# Altium footprint library PCB - CONNECTOR - PHOENIX 1757242.PcbLib: 1 footprints
Each footprint in its own frame and in the unit in brackets; x right, y up, seen from the top. Pads: shape width x height; smd on the part's side, far side on the other; paste and mask are expansions set on the pad; w line width, h text height; cw(c..) or ccw(c..) is an arc to the next point about the centre after c.
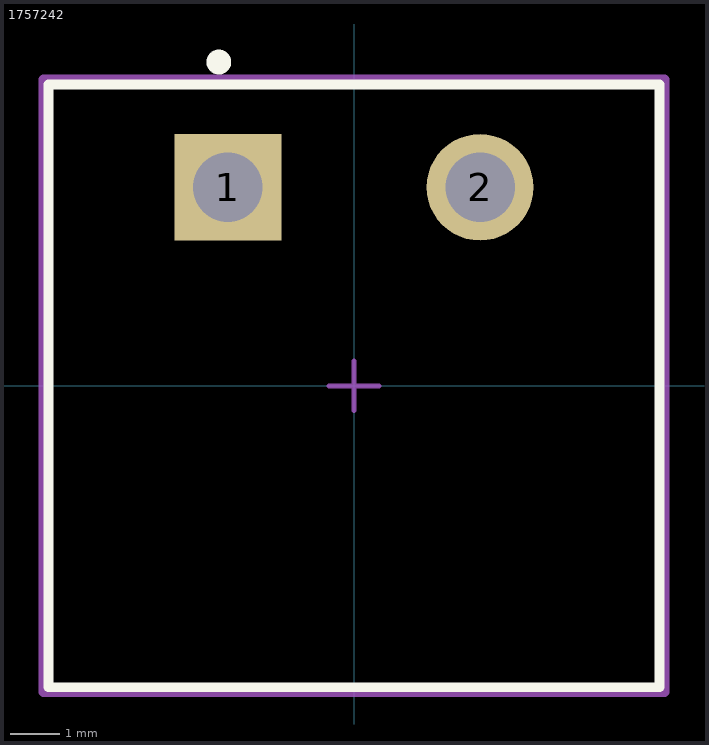
[diagram p0: the footprint, top view; thin cyan lines are the x and y axes]

## 1757242 [mm]
pads (2):
  rect 2.15x2.15 hole 1.4 paste-2539.97 mask+0: 1(-2.54,4)
  round 2.15 hole 1.4 paste-2539.97 mask+0: 2(2.54,4)
Top Overlay:
  circle w0.25: c-2.725,6.525 r0.125
  lines w0.2: -6.155,-6.075 -6.155,6.075 6.155,6.075 6.155,-6.075 -6.155,-6.075
Top Assembly:
  lines w0.2: -6.255,-6.175 -6.255,6.175 6.255,6.175 6.255,-6.175 -6.255,-6.175
Top Courtyard:
  lines w0.2: -6.255,-6.175 -6.255,6.175 6.255,6.175 6.255,-6.175 -6.255,-6.175
Top Designator:
  text ".Designator" at -1.905,6.665 h1
Top Component Center:
  lines w0.1: -0.5,0 0.5,0 ; 0,-0.5 0,0.5
3D body "Conn_Phoenix_Contact_1757242_eec.STEP": height 0.25, standoff 0, extent -6.255,-6.175 6.255,6.175